# Altium integrated library Cypress Clocks & Buffers Clock Generation.IntLib: 249 symbols (part 4 of 12)
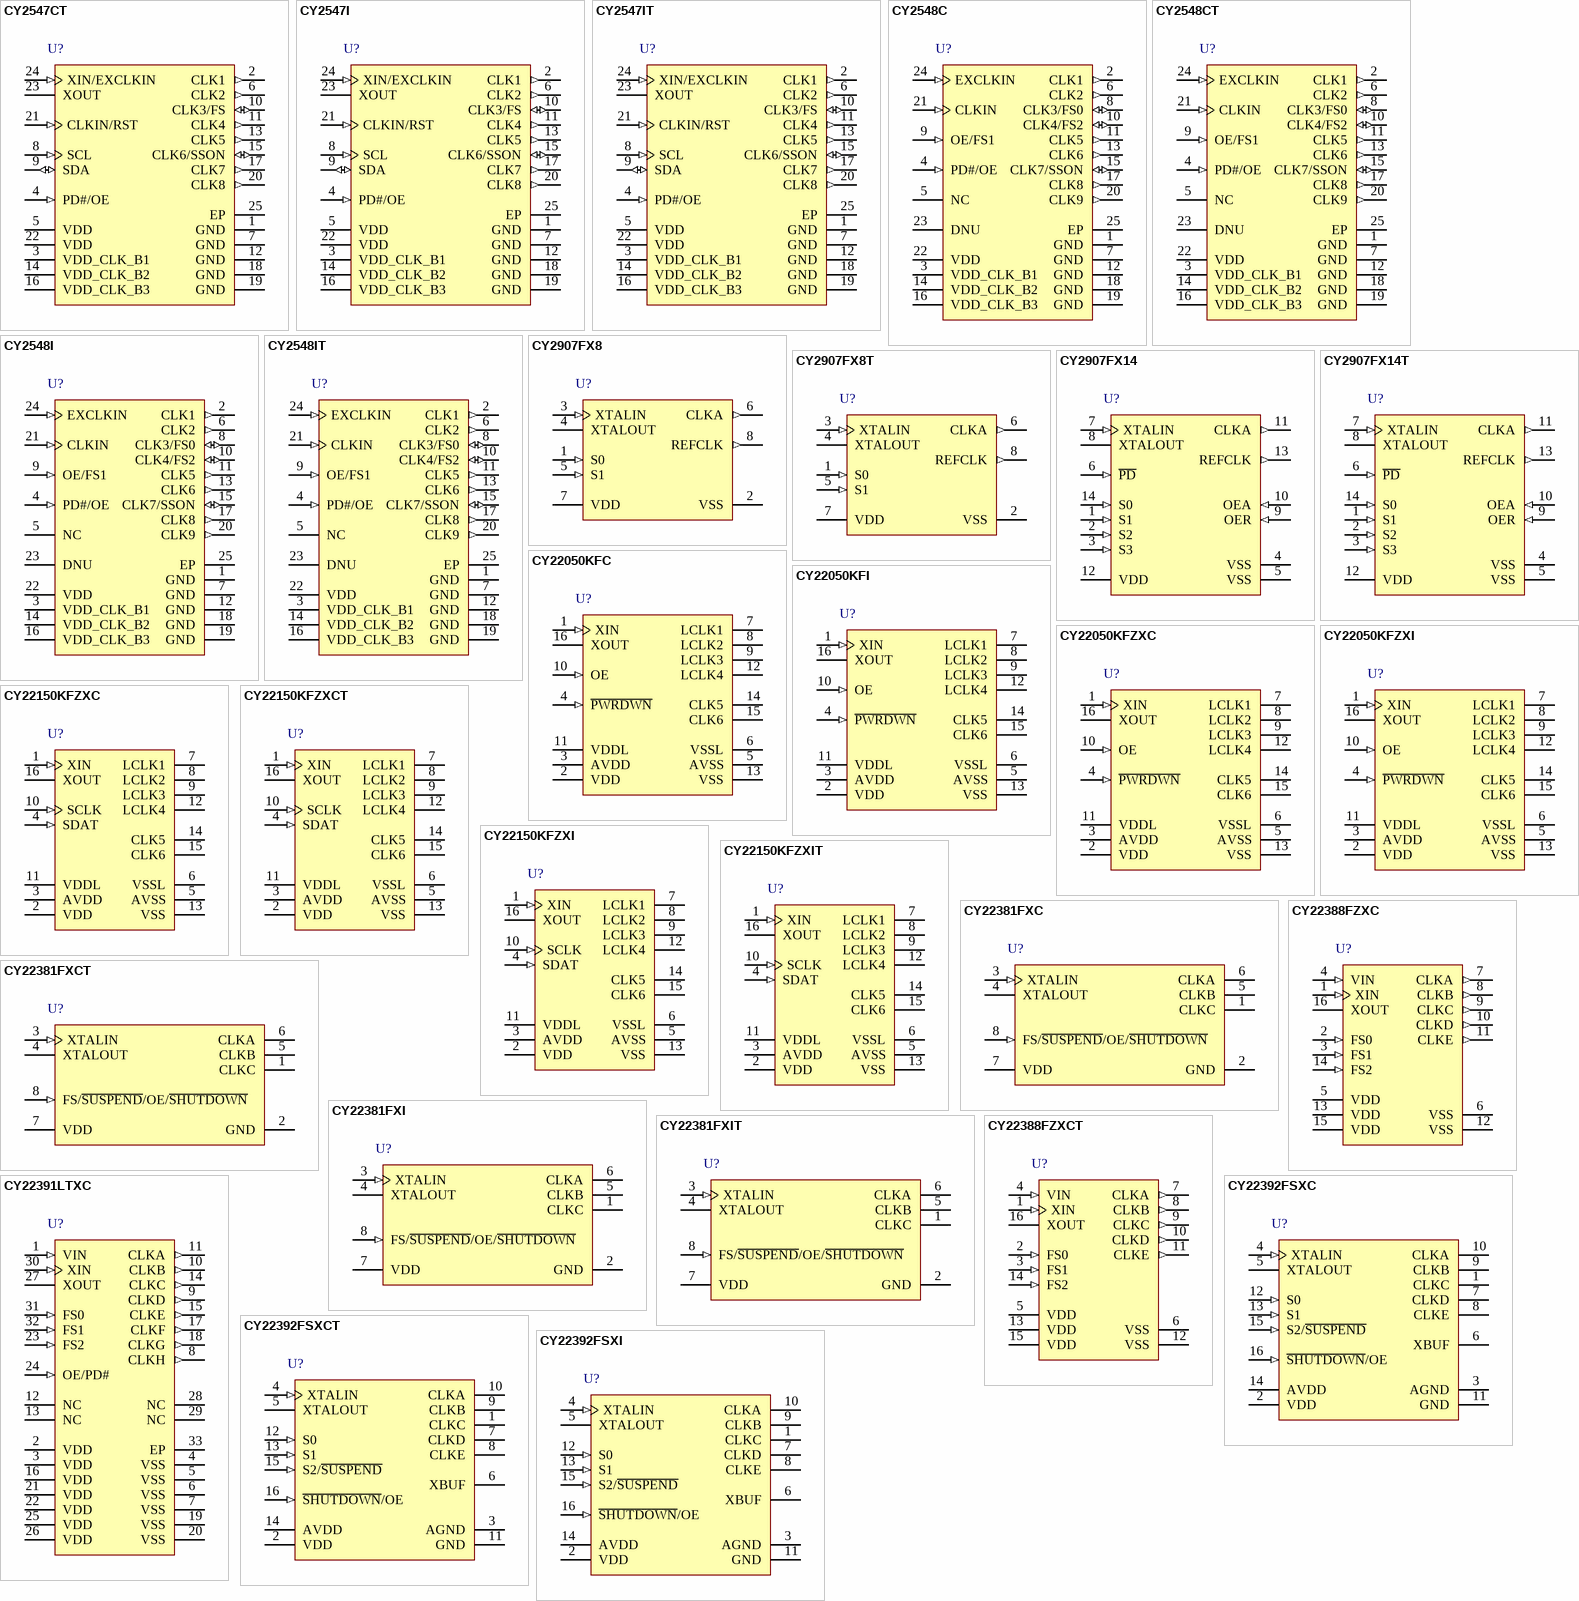
[diagram p11: symbols CY2547CT to CY22392FSXI]

## CY2548CT
designator U?
Quad PLL Programmable Clock Generator with Spread Spectrum, 2.5 / 3.0 / 3.3 V, 9 Outputs, 3 to 166 MHz, 0 to 70 degC, 24-Pin QFN (LY24), Tape and Reel; Manufacturer: Cypress; PartNumber: CY2548CT; Input Frequency Max. (MHz): 166; Input Frequency Min. (MHz): 8; Max. Operating Voltage (V): 3.6; Min. Operating Voltage (V): 2.25; No. of Outputs: 9; Output Frequency Min. (MHz): 3; DatasheetVersion: Rev. *D; PackageVersion: Rev. *D; PackageReference: LY24; PackageDescription: 24-Pin Quad Flat No Lead, Body 4 x 4 mm, Pitch 0.5 mm; Max. Operating Temp. (degreesC): 70; Min. Operating Temp. (degreesC): 0; Output Frequency Max. (MHz): 166; Packing: Tape and Reel; RoHS: Pb-Free; Mounting Technology: Surface Mount; Code_JEDEC: MO-220; ComponentLink1Description: Manufacturer URL; ComponentLink1URL: http://www.cypress.com/; ComponentLink2Description: Datasheet; ComponentLink2URL: http://www.cypress.com/?docID=47416; ComponentLink3Description: Package Specification; ComponentLink3URL: http://www.cypress.com/?docID=47416
footprint CYP-LY24_N (QFN, 24-Leads, Body 4.1x4.1mm, Pitch 0.5mm, Thermal Pad 2.49x2.49mm, IPC Medium Density)
footprint CYP-LY24_L (QFN, 24-Leads, Body 4.1x4.1mm, Pitch 0.5mm, Thermal Pad 2.49x2.49mm, IPC High Density)
footprint CYP-LY24_M (QFN, 24-Leads, Body 4.1x4.1mm, Pitch 0.5mm, Thermal Pad 2.49x2.49mm, IPC Low Density)
pins: 1 GND (power) "Power supply ground", 2 CLK1 (out) "Programmable clock output. Output voltage depends on VDD_CLK_B1 voltage", 3 VDD_CLK_B1 (power) "Power supply for bank1, (CLK1, CLK2, CLK3) Outputs: 2.5 V/3.0 V/3.3 V", 4 PD#/OE (in) "Multifunction programmable pin. Output enable or power-down mode", 5 NC "No Connect", 6 CLK2 (out) "Programmable Clock Output. Output voltage depends on VDD_CLK_B1 voltage", 7 GND (power) "Power supply ground", 8 CLK3/FS0 (io) "Multifunction programmable pin. Programmable clock output clock or frequency select pin. Output voltage of CLK3 depends on VDD_CLK_B1 voltage", 9 OE/FS1 (in) "Multifunction programmable pin. Output enable or frequency select pin", 10 CLK4/FS2 (io) "Multifunction programmable pin. Programmable clock output or frequency select input pin. Output voltage of CLK4 depends on VDD_CLK_B2 voltage", 11 CLK5 (out) "Programmable clock output. Output voltage depends on VDD_CLK_B2 voltage", 12 GND (power) "Power supply ground", 13 CLK6 (out) "Programmable clock output. Output voltage depends on VDD_CLK_B2 voltage", 14 VDD_CLK_B2 (power) "Power supply for bank2, (CLK4, CLK5, CLK6) Outputs. 2.5 V/3.0 V/3.3 V", 15 CLK7/SSON (io) "Multifunction programmable pin. Programmable clock output or spread spectrum ON/OFF control input pin. Output voltage of CLK7 depends on Bank3 voltage", 16 VDD_CLK_B3 (power) "Power supply for bank3, (CLK7, CLK8, CLK9) Outputs. 2.5 V/3.0 V/3.3 V", 17 CLK8 (out) "Programmable output clock. Output voltage depends on Bank3 voltage", 18 GND (power) "Power supply ground", 19 GND (power) "Power supply ground", 20 CLK9 (out) "Programmable clock output. Output voltage depends on VDD_CLK_B3 voltage", 21 CLKIN (in) "2.5 V/3.0 V/3.3 V reference clock input. The signal level of CLKIN input must track VDD power supply on pin 22.", 22 VDD (power) "Power supply. 2.5 V/3.0 V/3.3 V", 23 DNU "Do not use this pin for CY2548", 24 EXCLKIN (in) "2.5 V/3.0 V/3.3 V external clock input for CY2548", 25 EP

## CY2548I
designator U?
Quad PLL Programmable Clock Generator with Spread Spectrum, 2.5 / 3.0 / 3.3 V, 9 Outputs, 3 to 166 MHz, -40 to 85 degC, 24-Pin QFN (LY24), Tube; Manufacturer: Cypress; PartNumber: CY2548I; Input Frequency Max. (MHz): 166; Input Frequency Min. (MHz): 8; Max. Operating Voltage (V): 3.6; Min. Operating Voltage (V): 2.25; No. of Outputs: 9; Output Frequency Min. (MHz): 3; DatasheetVersion: Rev. *D; PackageVersion: Rev. *D; PackageReference: LY24; PackageDescription: 24-Pin Quad Flat No Lead, Body 4 x 4 mm, Pitch 0.5 mm; Max. Operating Temp. (degreesC): 85; Min. Operating Temp. (degreesC): -40; Output Frequency Max. (MHz): 166; Packing: Tube; RoHS: Pb-Free; Mounting Technology: Surface Mount; Code_JEDEC: MO-220; ComponentLink1Description: Manufacturer URL; ComponentLink1URL: http://www.cypress.com/; ComponentLink2Description: Datasheet; ComponentLink2URL: http://www.cypress.com/?docID=47416; ComponentLink3Description: Package Specification; ComponentLink3URL: http://www.cypress.com/?docID=47416
footprint CYP-LY24_N (QFN, 24-Leads, Body 4.1x4.1mm, Pitch 0.5mm, Thermal Pad 2.49x2.49mm, IPC Medium Density)
footprint CYP-LY24_L (QFN, 24-Leads, Body 4.1x4.1mm, Pitch 0.5mm, Thermal Pad 2.49x2.49mm, IPC High Density)
footprint CYP-LY24_M (QFN, 24-Leads, Body 4.1x4.1mm, Pitch 0.5mm, Thermal Pad 2.49x2.49mm, IPC Low Density)
pins: 1 GND (power) "Power supply ground", 2 CLK1 (out) "Programmable clock output. Output voltage depends on VDD_CLK_B1 voltage", 3 VDD_CLK_B1 (power) "Power supply for bank1, (CLK1, CLK2, CLK3) Outputs: 2.5 V/3.0 V/3.3 V", 4 PD#/OE (in) "Multifunction programmable pin. Output enable or power-down mode", 5 NC "No Connect", 6 CLK2 (out) "Programmable Clock Output. Output voltage depends on VDD_CLK_B1 voltage", 7 GND (power) "Power supply ground", 8 CLK3/FS0 (io) "Multifunction programmable pin. Programmable clock output clock or frequency select pin. Output voltage of CLK3 depends on VDD_CLK_B1 voltage", 9 OE/FS1 (in) "Multifunction programmable pin. Output enable or frequency select pin", 10 CLK4/FS2 (io) "Multifunction programmable pin. Programmable clock output or frequency select input pin. Output voltage of CLK4 depends on VDD_CLK_B2 voltage", 11 CLK5 (out) "Programmable clock output. Output voltage depends on VDD_CLK_B2 voltage", 12 GND (power) "Power supply ground", 13 CLK6 (out) "Programmable clock output. Output voltage depends on VDD_CLK_B2 voltage", 14 VDD_CLK_B2 (power) "Power supply for bank2, (CLK4, CLK5, CLK6) Outputs. 2.5 V/3.0 V/3.3 V", 15 CLK7/SSON (io) "Multifunction programmable pin. Programmable clock output or spread spectrum ON/OFF control input pin. Output voltage of CLK7 depends on Bank3 voltage", 16 VDD_CLK_B3 (power) "Power supply for bank3, (CLK7, CLK8, CLK9) Outputs. 2.5 V/3.0 V/3.3 V", 17 CLK8 (out) "Programmable output clock. Output voltage depends on Bank3 voltage", 18 GND (power) "Power supply ground", 19 GND (power) "Power supply ground", 20 CLK9 (out) "Programmable clock output. Output voltage depends on VDD_CLK_B3 voltage", 21 CLKIN (in) "2.5 V/3.0 V/3.3 V reference clock input. The signal level of CLKIN input must track VDD power supply on pin 22.", 22 VDD (power) "Power supply. 2.5 V/3.0 V/3.3 V", 23 DNU "Do not use this pin for CY2548", 24 EXCLKIN (in) "2.5 V/3.0 V/3.3 V external clock input for CY2548", 25 EP

## CY2548IT
designator U?
Quad PLL Programmable Clock Generator with Spread Spectrum, 2.5 / 3.0 / 3.3 V, 9 Outputs, 3 to 166 MHz, -40 to 85 degC, 24-Pin QFN (LY24), Tape and Reel; Manufacturer: Cypress; PartNumber: CY2548IT; Input Frequency Max. (MHz): 166; Input Frequency Min. (MHz): 8; Max. Operating Voltage (V): 3.6; Min. Operating Voltage (V): 2.25; No. of Outputs: 9; Output Frequency Min. (MHz): 3; DatasheetVersion: Rev. *D; PackageVersion: Rev. *D; PackageReference: LY24; PackageDescription: 24-Pin Quad Flat No Lead, Body 4 x 4 mm, Pitch 0.5 mm; Max. Operating Temp. (degreesC): 85; Min. Operating Temp. (degreesC): -40; Output Frequency Max. (MHz): 166; Packing: Tape and Reel; RoHS: Pb-Free; Mounting Technology: Surface Mount; Code_JEDEC: MO-220; ComponentLink1Description: Manufacturer URL; ComponentLink1URL: http://www.cypress.com/; ComponentLink2Description: Datasheet; ComponentLink2URL: http://www.cypress.com/?docID=47416; ComponentLink3Description: Package Specification; ComponentLink3URL: http://www.cypress.com/?docID=47416
footprint CYP-LY24_N (QFN, 24-Leads, Body 4.1x4.1mm, Pitch 0.5mm, Thermal Pad 2.49x2.49mm, IPC Medium Density)
footprint CYP-LY24_L (QFN, 24-Leads, Body 4.1x4.1mm, Pitch 0.5mm, Thermal Pad 2.49x2.49mm, IPC High Density)
footprint CYP-LY24_M (QFN, 24-Leads, Body 4.1x4.1mm, Pitch 0.5mm, Thermal Pad 2.49x2.49mm, IPC Low Density)
pins: 1 GND (power) "Power supply ground", 2 CLK1 (out) "Programmable clock output. Output voltage depends on VDD_CLK_B1 voltage", 3 VDD_CLK_B1 (power) "Power supply for bank1, (CLK1, CLK2, CLK3) Outputs: 2.5 V/3.0 V/3.3 V", 4 PD#/OE (in) "Multifunction programmable pin. Output enable or power-down mode", 5 NC "No Connect", 6 CLK2 (out) "Programmable Clock Output. Output voltage depends on VDD_CLK_B1 voltage", 7 GND (power) "Power supply ground", 8 CLK3/FS0 (io) "Multifunction programmable pin. Programmable clock output clock or frequency select pin. Output voltage of CLK3 depends on VDD_CLK_B1 voltage", 9 OE/FS1 (in) "Multifunction programmable pin. Output enable or frequency select pin", 10 CLK4/FS2 (io) "Multifunction programmable pin. Programmable clock output or frequency select input pin. Output voltage of CLK4 depends on VDD_CLK_B2 voltage", 11 CLK5 (out) "Programmable clock output. Output voltage depends on VDD_CLK_B2 voltage", 12 GND (power) "Power supply ground", 13 CLK6 (out) "Programmable clock output. Output voltage depends on VDD_CLK_B2 voltage", 14 VDD_CLK_B2 (power) "Power supply for bank2, (CLK4, CLK5, CLK6) Outputs. 2.5 V/3.0 V/3.3 V", 15 CLK7/SSON (io) "Multifunction programmable pin. Programmable clock output or spread spectrum ON/OFF control input pin. Output voltage of CLK7 depends on Bank3 voltage", 16 VDD_CLK_B3 (power) "Power supply for bank3, (CLK7, CLK8, CLK9) Outputs. 2.5 V/3.0 V/3.3 V", 17 CLK8 (out) "Programmable output clock. Output voltage depends on Bank3 voltage", 18 GND (power) "Power supply ground", 19 GND (power) "Power supply ground", 20 CLK9 (out) "Programmable clock output. Output voltage depends on VDD_CLK_B3 voltage", 21 CLKIN (in) "2.5 V/3.0 V/3.3 V reference clock input. The signal level of CLKIN input must track VDD power supply on pin 22.", 22 VDD (power) "Power supply. 2.5 V/3.0 V/3.3 V", 23 DNU "Do not use this pin for CY2548", 24 EXCLKIN (in) "2.5 V/3.0 V/3.3 V external clock input for CY2548", 25 EP

## CY2907FX8
designator U?
Single-PLL General Purpose EPROM Programmable Clock Generator, 3.3 / 5.0 V, 2 Outputs, 0.5 to 80 MHz, 0 to 70 degC, 8-Pin SOIC (FX8), Tube; Manufacturer: Cypress; PartNumber: CY2907FX8; Input Frequency Max. (MHz): 30; Input Frequency Min. (MHz): 1; Max. Operating Voltage (V): 5.5; Min. Operating Voltage (V): 3; No. of Outputs: 2; Output Frequency Max. (MHz): 80; Output Frequency Min. (MHz): 0.5; DatasheetVersion: Rev. *G; PackageVersion: Rev. *F; PackageReference: FX8; PackageDescription: 8-Pin Small Outline Integrated Circuit Package, Body 4.889 x 3.8985 mm, Pitch 1.27 mm; Supplier 1: Digi-Key; Supplier Part Number 1: 428-2229-5-ND; Supplier 2: Mouser; Supplier Part Number 2: 727-CY2907FX8; Max. Operating Temp. (degreesC): 70; Min. Operating Temp. (degreesC): 0; Packing: Tube; RoHS: Pb-Free; Mounting Technology: Surface Mount; Code_JEDEC: MS-012; ComponentLink1Description: Manufacturer URL; ComponentLink1URL: http://www.cypress.com/; ComponentLink2Description: Datasheet; ComponentLink2URL: http://www.cypress.com/?docID=44860; ComponentLink3Description: Package Specification; ComponentLink3URL: http://www.cypress.com/?docID=44860
footprint CYP-FX8_N (SOIC, 8-Leads, Body 5x4mm, Pitch 1.27mm, IPC Medium Density)
footprint CYP-FX8_L (SOIC, 8-Leads, Body 5x4mm, Pitch 1.27mm, IPC High Density)
footprint CYP-FX8_M (SOIC, 8-Leads, Body 5x4mm, Pitch 1.27mm, IPC Low Density)
pins: 1 S0 (in) "Frequency select (CLKA) (internal pull-up resistor to VDD)", 2 VSS (power) "Ground", 3 XTALIN (in) "Reference crystal input", 4 XTALOUT "Reference crystal feedback", 5 S1 (in) "Frequency select (CLKA) (internal pull-up resistor to VDD)", 6 CLKA (out) "Clock output", 7 VDD (power) "Voltage supply", 8 REFCLK (out) "Reference clock output (default, can be driven by PLL if desired)"

## CY2907FX8T
designator U?
Single-PLL General Purpose EPROM Programmable Clock Generator, 3.3 / 5.0 V, 2 Outputs, 0.5 to 80 MHz, 0 to 70 degC, 8-Pin SOIC (FX8), Tape and Reel; Manufacturer: Cypress; PartNumber: CY2907FX8T; Input Frequency Max. (MHz): 30; Input Frequency Min. (MHz): 1; Max. Operating Voltage (V): 5.5; Min. Operating Voltage (V): 3; No. of Outputs: 2; Output Frequency Max. (MHz): 80; Output Frequency Min. (MHz): 0.5; DatasheetVersion: Rev. *G; PackageVersion: Rev. *F; PackageReference: FX8; PackageDescription: 8-Pin Small Outline Integrated Circuit Package, Body 4.889 x 3.8985 mm, Pitch 1.27 mm; Supplier 1: Mouser; Supplier Part Number 1: 727-CY2907FX8T; Max. Operating Temp. (degreesC): 70; Min. Operating Temp. (degreesC): 0; Packing: Tape and Reel; RoHS: Pb-Free; Mounting Technology: Surface Mount; Code_JEDEC: MS-012; ComponentLink1Description: Manufacturer URL; ComponentLink1URL: http://www.cypress.com/; ComponentLink2Description: Datasheet; ComponentLink2URL: http://www.cypress.com/?docID=44860; ComponentLink3Description: Package Specification; ComponentLink3URL: http://www.cypress.com/?docID=44860
footprint CYP-FX8_N (SOIC, 8-Leads, Body 5x4mm, Pitch 1.27mm, IPC Medium Density)
footprint CYP-FX8_L (SOIC, 8-Leads, Body 5x4mm, Pitch 1.27mm, IPC High Density)
footprint CYP-FX8_M (SOIC, 8-Leads, Body 5x4mm, Pitch 1.27mm, IPC Low Density)
pins: 1 S0 (in) "Frequency select (CLKA) (internal pull-up resistor to VDD)", 2 VSS (power) "Ground", 3 XTALIN (in) "Reference crystal input", 4 XTALOUT "Reference crystal feedback", 5 S1 (in) "Frequency select (CLKA) (internal pull-up resistor to VDD)", 6 CLKA (out) "Clock output", 7 VDD (power) "Voltage supply", 8 REFCLK (out) "Reference clock output (default, can be driven by PLL if desired)"

## CY2907FX14
designator U?
Single-PLL General Purpose EPROM Programmable Clock Generator, 3.3 / 5.0 V, 2 Outputs, 0.5 to 80 MHz, 0 to 70 degC, 14-Pin SOIC (FX14), Tube; Manufacturer: Cypress; PartNumber: CY2907FX14; Input Frequency Max. (MHz): 30; Input Frequency Min. (MHz): 1; Max. Operating Voltage (V): 5.5; Min. Operating Voltage (V): 3; No. of Outputs: 2; Output Frequency Max. (MHz): 80; Output Frequency Min. (MHz): 0.5; DatasheetVersion: Rev. *G; PackageVersion: Rev. *D; PackageReference: FX14; PackageDescription: 14-Pin Small Outline Integrated Circuit Package, Body 8.6483 x 3.8985 mm, Pitch 1.27 mm; Supplier 1: Digi-Key; Supplier Part Number 1: CY2907FX14-ND; Supplier 2: Mouser; Supplier Part Number 2: 727-CY2907FX14; Max. Operating Temp. (degreesC): 70; Min. Operating Temp. (degreesC): 0; Packing: Tube; RoHS: Pb-Free; Mounting Technology: Surface Mount; Code_JEDEC: MS-012; ComponentLink1Description: Manufacturer URL; ComponentLink1URL: http://www.cypress.com/; ComponentLink2Description: Datasheet; ComponentLink2URL: http://www.cypress.com/?docID=44860; ComponentLink3Description: Package Specification; ComponentLink3URL: http://www.cypress.com/?docID=44860
footprint CYP-FX14_N (SOIC, 14-Leads, Body 8.7x4mm, Pitch 1.27mm, IPC Medium Density)
footprint CYP-FX14_L (SOIC, 14-Leads, Body 8.7x4mm, Pitch 1.27mm, IPC High Density)
footprint CYP-FX14_M (SOIC, 14-Leads, Body 8.7x4mm, Pitch 1.27mm, IPC Low Density)
pins: 1 S1 (in) "Frequency select (CLKA) (internal pull-up resistor to VDD)", 2 S2 (in) "Frequency select (CLKA) (internal pull-up resistor to VDD)", 3 S3 (in) "Frequency select (CLKA) (internal pull-up resistor to VDD)", 4 VSS (power) "Ground", 5 VSS (power) "Ground", 6 ~{PD} (in) "Power-down (active LOW) (internal pull-up resistor to VDD)", 7 XTALIN (in) "Reference crystal input", 8 XTALOUT "Reference crystal feedback", 9 OER (in) "REFCLK output enable (active HIGH) (internal pull-up resistor to VDD)", 10 OEA (in) "CLKA output enable (active HIGH) (internal pull-up resistor to VDD)", 11 CLKA (out) "Clock output", 12 VDD (power) "Voltage supply", 13 REFCLK (out) "Reference clock output (default, can be driven by PLL if desired)", 14 S0 (in) "Frequency select (CLKA) (internal pull-up resistor to VDD)"

## CY2907FX14T
designator U?
Single-PLL General Purpose EPROM Programmable Clock Generator, 3.3 / 5.0 V, 2 Outputs, 0.5 to 80 MHz, 0 to 70 degC, 14-Pin SOIC (FX14), Tape and Reel; Manufacturer: Cypress; PartNumber: CY2907FX14T; Input Frequency Max. (MHz): 30; Input Frequency Min. (MHz): 1; Max. Operating Voltage (V): 5.5; Min. Operating Voltage (V): 3; No. of Outputs: 2; Output Frequency Max. (MHz): 80; Output Frequency Min. (MHz): 0.5; DatasheetVersion: Rev. *G; PackageVersion: Rev. *D; PackageReference: FX14; PackageDescription: 14-Pin Small Outline Integrated Circuit Package, Body 8.6483 x 3.8985 mm, Pitch 1.27 mm; Supplier 1: Digi-Key; Supplier Part Number 1: CY2907FX14T-ND; Supplier 2: Mouser; Supplier Part Number 2: 727-CY2907FX14T; Max. Operating Temp. (degreesC): 70; Min. Operating Temp. (degreesC): 0; Packing: Tape and Reel; RoHS: Pb-Free; Mounting Technology: Surface Mount; Code_JEDEC: MS-012; ComponentLink1Description: Manufacturer URL; ComponentLink1URL: http://www.cypress.com/; ComponentLink2Description: Datasheet; ComponentLink2URL: http://www.cypress.com/?docID=44860; ComponentLink3Description: Package Specification; ComponentLink3URL: http://www.cypress.com/?docID=44860
footprint CYP-FX14_N (SOIC, 14-Leads, Body 8.7x4mm, Pitch 1.27mm, IPC Medium Density)
footprint CYP-FX14_L (SOIC, 14-Leads, Body 8.7x4mm, Pitch 1.27mm, IPC High Density)
footprint CYP-FX14_M (SOIC, 14-Leads, Body 8.7x4mm, Pitch 1.27mm, IPC Low Density)
pins: 1 S1 (in) "Frequency select (CLKA) (internal pull-up resistor to VDD)", 2 S2 (in) "Frequency select (CLKA) (internal pull-up resistor to VDD)", 3 S3 (in) "Frequency select (CLKA) (internal pull-up resistor to VDD)", 4 VSS (power) "Ground", 5 VSS (power) "Ground", 6 ~{PD} (in) "Power-down (active LOW) (internal pull-up resistor to VDD)", 7 XTALIN (in) "Reference crystal input", 8 XTALOUT "Reference crystal feedback", 9 OER (in) "REFCLK output enable (active HIGH) (internal pull-up resistor to VDD)", 10 OEA (in) "CLKA output enable (active HIGH) (internal pull-up resistor to VDD)", 11 CLKA (out) "Clock output", 12 VDD (power) "Voltage supply", 13 REFCLK (out) "Reference clock output (default, can be driven by PLL if desired)", 14 S0 (in) "Frequency select (CLKA) (internal pull-up resistor to VDD)"

## CY22050KFC
designator U?
One-PLL General-Purpose Flash-Programmable Clock Generator, 2.5 / 3.3 V, 6 Outputs, 0.08 to 200 MHz, 0 to 70 degC, 16-Pin TSSOP (Z16), Tube; Manufacturer: Cypress; PartNumber: CY22050KFC; Input Frequency Max. (MHz): 133; Input Frequency Min. (MHz): 1; Max. Operating Voltage (V): 3.465; Min. Operating Voltage (V): 3.135; No. of Outputs: 6; Output Frequency Max. (MHz): 200; Output Frequency Min. (MHz): 0.08; DatasheetVersion: Rev. *K; PackageVersion: Rev. *D; PackageReference: Z16; PackageDescription: 16-Pin Thin Shrink Small Outline Package, Body 5 x 4.4 mm, Pitch 0.65 mm; Supplier 1: Digi-Key; Supplier Part Number 1: CY22050KFC-ND; Supplier 2: Mouser; Supplier Part Number 2: 727-CY22050KFC; Max. Operating Temp. (degreesC): 70; Min. Operating Temp. (degreesC): 0; Packing: Tube; Mounting Technology: Surface Mount; Code_JEDEC: MO-153; ComponentLink1Description: Manufacturer URL; ComponentLink1URL: http://www.cypress.com/; ComponentLink2Description: Datasheet; ComponentLink2URL: http://www.cypress.com/?docID=31116; ComponentLink3Description: Package Specification; ComponentLink3URL: http://www.cypress.com/?docID=46959
footprint CYP-Z16_N (SOP, 16-Leads, Body 5.1x4.5mm, Pitch 0.65mm, IPC Medium Density)
footprint CYP-Z16_L (SOP, 16-Leads, Body 5.1x4.5mm, Pitch 0.65mm, IPC High Density)
footprint CYP-Z16_M (SOP, 16-Leads, Body 5.1x4.5mm, Pitch 0.65mm, IPC Low Density)
pins: 1 XIN (in) "Reference Input. Driven by a crystal (8 MHz-30 MHz) or external clock (1 MHz-133 MHz). Programmable input load capacitors allow for maximum flexibility in selecting a crystal, based on manufacturer, process, performance, or (See Datasheet)", 2 VDD (power) "3.3 V voltage supply", 3 AVDD (power) "3.3 V analog voltage supply", 4 ~{PWRDWN} (in) "Power Down. When pin 4 is driven LOW, the CY22050 goes into shut down mode.", 5 AVSS (power) "Analog ground", 6 VSSL (power) "LCLK ground", 7 LCLK1 (hiz) "Configurable clock output 1 at VDDL level (3.3 V or 2.5 V)", 8 LCLK2 (hiz) "Configurable clock output 2 at VDDL level (3.3 V or 2.5 V)", 9 LCLK3 (hiz) "Configurable clock output 3 at VDDL level (3.3 V or 2.5 V)", 10 OE (in) "Output Enable. When pin 10 is driven LOW, all outputs are three-stated.", 11 VDDL (power) "LCLK voltage supply (2.5 V or 3.3 V)", 12 LCLK4 (hiz) "Configurable clock output 4 at VDDL level (3.3 V or 2.5 V)", 13 VSS (power) "Ground", 14 CLK5 (hiz) "Configurable clock output 5 (3.3 V)", 15 CLK6 (hiz) "Configurable clock output 6 (3.3 V)", 16 XOUT "Reference output"

## CY22050KFI
designator U?
One-PLL General-Purpose Flash-Programmable Clock Generator, 2.5 / 3.3 V, 6 Outputs, 0.08 to 166.6 MHz, -40 to 85 degC, 16-Pin TSSOP (Z16), Tube; Manufacturer: Cypress; PartNumber: CY22050KFI; Input Frequency Max. (MHz): 133; Input Frequency Min. (MHz): 1; Max. Operating Voltage (V): 3.465; Min. Operating Voltage (V): 3.135; No. of Outputs: 6; Output Frequency Max. (MHz): 166.6; Output Frequency Min. (MHz): 0.08; DatasheetVersion: Rev. *K; PackageVersion: Rev. *D; PackageReference: Z16; PackageDescription: 16-Pin Thin Shrink Small Outline Package, Body 5 x 4.4 mm, Pitch 0.65 mm; Supplier 1: Digi-Key; Supplier Part Number 1: CY22050KFI-ND; Supplier 2: Mouser; Supplier Part Number 2: 727-CY22050KFI; Max. Operating Temp. (degreesC): 85; Min. Operating Temp. (degreesC): -40; Packing: Tube; Mounting Technology: Surface Mount; Code_JEDEC: MO-153; ComponentLink1Description: Manufacturer URL; ComponentLink1URL: http://www.cypress.com/; ComponentLink2Description: Datasheet; ComponentLink2URL: http://www.cypress.com/?docID=31116; ComponentLink3Description: Package Specification; ComponentLink3URL: http://www.cypress.com/?docID=46959
footprint CYP-Z16_N (SOP, 16-Leads, Body 5.1x4.5mm, Pitch 0.65mm, IPC Medium Density)
footprint CYP-Z16_L (SOP, 16-Leads, Body 5.1x4.5mm, Pitch 0.65mm, IPC High Density)
footprint CYP-Z16_M (SOP, 16-Leads, Body 5.1x4.5mm, Pitch 0.65mm, IPC Low Density)
pins: 1 XIN (in) "Reference Input. Driven by a crystal (8 MHz-30 MHz) or external clock (1 MHz-133 MHz). Programmable input load capacitors allow for maximum flexibility in selecting a crystal, based on manufacturer, process, performance, or (See Datasheet)", 2 VDD (power) "3.3 V voltage supply", 3 AVDD (power) "3.3 V analog voltage supply", 4 ~{PWRDWN} (in) "Power Down. When pin 4 is driven LOW, the CY22050 goes into shut down mode.", 5 AVSS (power) "Analog ground", 6 VSSL (power) "LCLK ground", 7 LCLK1 (hiz) "Configurable clock output 1 at VDDL level (3.3 V or 2.5 V)", 8 LCLK2 (hiz) "Configurable clock output 2 at VDDL level (3.3 V or 2.5 V)", 9 LCLK3 (hiz) "Configurable clock output 3 at VDDL level (3.3 V or 2.5 V)", 10 OE (in) "Output Enable. When pin 10 is driven LOW, all outputs are three-stated.", 11 VDDL (power) "LCLK voltage supply (2.5 V or 3.3 V)", 12 LCLK4 (hiz) "Configurable clock output 4 at VDDL level (3.3 V or 2.5 V)", 13 VSS (power) "Ground", 14 CLK5 (hiz) "Configurable clock output 5 (3.3 V)", 15 CLK6 (hiz) "Configurable clock output 6 (3.3 V)", 16 XOUT "Reference output"

## CY22050KFZXC
designator U?
One-PLL General-Purpose Flash-Programmable Clock Generator, 2.5 / 3.3 V, 6 Outputs, 0.08 to 200 MHz, 0 to 70 degC, 16-Pin TSSOP (ZX16), Tube; Manufacturer: Cypress; PartNumber: CY22050KFZXC; Input Frequency Max. (MHz): 133; Input Frequency Min. (MHz): 1; Max. Operating Voltage (V): 3.465; Min. Operating Voltage (V): 3.135; No. of Outputs: 6; Output Frequency Max. (MHz): 200; Output Frequency Min. (MHz): 0.08; DatasheetVersion: Rev. *K; PackageVersion: Rev. *D, 09/2011; PackageReference: ZX16; PackageDescription: 16-Pin Thin Shrink Small Outline Package, Body 5 x 4.4 mm, Pitch 0.65 mm; Supplier 1: Digi-Key; Supplier Part Number 1: CY22050KFZXC-ND; Supplier 2: Newark; Supplier Part Number 2: 46P7546; Supplier 3: Mouser; Supplier Part Number 3: 727-CY22050KFZXC; Max. Operating Temp. (degreesC): 70; Min. Operating Temp. (degreesC): 0; Packing: Tube; RoHS: Pb-Free; Mounting Technology: Surface Mount; Code_JEDEC: MO-153; ComponentLink1Description: Manufacturer URL; ComponentLink1URL: http://www.cypress.com/; ComponentLink2Description: Datasheet; ComponentLink2URL: http://www.cypress.com/?docID=31116; ComponentLink3Description: Package Specification; ComponentLink3URL: http://www.cypress.com/?docID=39143
footprint CYP-ZX16_N (SOP, 16-Leads, Body 5.1x4.5mm, Pitch 0.65mm, IPC Medium Density)
footprint CYP-ZX16_L (SOP, 16-Leads, Body 5.1x4.5mm, Pitch 0.65mm, IPC High Density)
footprint CYP-ZX16_M (SOP, 16-Leads, Body 5.1x4.5mm, Pitch 0.65mm, IPC Low Density)
pins: 1 XIN (in) "Reference Input. Driven by a crystal (8 MHz-30 MHz) or external clock (1 MHz-133 MHz). Programmable input load capacitors allow for maximum flexibility in selecting a crystal, based on manufacturer, process, performance, or (See Datasheet)", 2 VDD (power) "3.3 V voltage supply", 3 AVDD (power) "3.3 V analog voltage supply", 4 ~{PWRDWN} (in) "Power Down. When pin 4 is driven LOW, the CY22050 goes into shut down mode.", 5 AVSS (power) "Analog ground", 6 VSSL (power) "LCLK ground", 7 LCLK1 (hiz) "Configurable clock output 1 at VDDL level (3.3 V or 2.5 V)", 8 LCLK2 (hiz) "Configurable clock output 2 at VDDL level (3.3 V or 2.5 V)", 9 LCLK3 (hiz) "Configurable clock output 3 at VDDL level (3.3 V or 2.5 V)", 10 OE (in) "Output Enable. When pin 10 is driven LOW, all outputs are three-stated.", 11 VDDL (power) "LCLK voltage supply (2.5 V or 3.3 V)", 12 LCLK4 (hiz) "Configurable clock output 4 at VDDL level (3.3 V or 2.5 V)", 13 VSS (power) "Ground", 14 CLK5 (hiz) "Configurable clock output 5 (3.3 V)", 15 CLK6 (hiz) "Configurable clock output 6 (3.3 V)", 16 XOUT "Reference output"

## CY22050KFZXI
designator U?
One-PLL General-Purpose Flash-Programmable Clock Generator, 2.5 / 3.3 V, 6 Outputs, 0.08 to 166.6 MHz, -40 to 85 degC, 16-Pin TSSOP (ZX16), Tube; Manufacturer: Cypress; PartNumber: CY22050KFZXI; Input Frequency Max. (MHz): 133; Input Frequency Min. (MHz): 1; Max. Operating Voltage (V): 3.465; Min. Operating Voltage (V): 3.135; No. of Outputs: 6; Output Frequency Max. (MHz): 166.6; Output Frequency Min. (MHz): 0.08; DatasheetVersion: Rev. *K; PackageVersion: Rev. *D, 09/2011; PackageReference: ZX16; PackageDescription: 16-Pin Thin Shrink Small Outline Package, Body 5 x 4.4 mm, Pitch 0.65 mm; Supplier 1: Digi-Key; Supplier Part Number 1: CY22050KFZXI-ND; Supplier 2: Mouser; Supplier Part Number 2: 727-CY22050KFZXI; Max. Operating Temp. (degreesC): 85; Min. Operating Temp. (degreesC): -40; Packing: Tube; RoHS: Pb-Free; Mounting Technology: Surface Mount; Code_JEDEC: MO-153; ComponentLink1Description: Manufacturer URL; ComponentLink1URL: http://www.cypress.com/; ComponentLink2Description: Datasheet; ComponentLink2URL: http://www.cypress.com/?docID=31116; ComponentLink3Description: Package Specification; ComponentLink3URL: http://www.cypress.com/?docID=39143
footprint CYP-ZX16_N (SOP, 16-Leads, Body 5.1x4.5mm, Pitch 0.65mm, IPC Medium Density)
footprint CYP-ZX16_L (SOP, 16-Leads, Body 5.1x4.5mm, Pitch 0.65mm, IPC High Density)
footprint CYP-ZX16_M (SOP, 16-Leads, Body 5.1x4.5mm, Pitch 0.65mm, IPC Low Density)
pins: 1 XIN (in) "Reference Input. Driven by a crystal (8 MHz-30 MHz) or external clock (1 MHz-133 MHz). Programmable input load capacitors allow for maximum flexibility in selecting a crystal, based on manufacturer, process, performance, or (See Datasheet)", 2 VDD (power) "3.3 V voltage supply", 3 AVDD (power) "3.3 V analog voltage supply", 4 ~{PWRDWN} (in) "Power Down. When pin 4 is driven LOW, the CY22050 goes into shut down mode.", 5 AVSS (power) "Analog ground", 6 VSSL (power) "LCLK ground", 7 LCLK1 (hiz) "Configurable clock output 1 at VDDL level (3.3 V or 2.5 V)", 8 LCLK2 (hiz) "Configurable clock output 2 at VDDL level (3.3 V or 2.5 V)", 9 LCLK3 (hiz) "Configurable clock output 3 at VDDL level (3.3 V or 2.5 V)", 10 OE (in) "Output Enable. When pin 10 is driven LOW, all outputs are three-stated.", 11 VDDL (power) "LCLK voltage supply (2.5 V or 3.3 V)", 12 LCLK4 (hiz) "Configurable clock output 4 at VDDL level (3.3 V or 2.5 V)", 13 VSS (power) "Ground", 14 CLK5 (hiz) "Configurable clock output 5 (3.3 V)", 15 CLK6 (hiz) "Configurable clock output 6 (3.3 V)", 16 XOUT "Reference output"

## CY22150KFZXC
designator U?
One-PLL General-Purpose Flash-Programmable and I2C Programmable Clock Generator, 2.5 / 3.3 V, 6 Outputs, 0.08 to 200 MHz, 0 to 70 degC, 16-Pin TSSOP (Z16), Tube; Manufacturer: Cypress; PartNumber: CY22150KFZXC; Input Frequency Max. (MHz): 133; Input Frequency Min. (MHz): 1; Max. Operating Voltage (V): 3.465; Min. Operating Voltage (V): 3.135; No. of Outputs: 6; Output Frequency Max. (MHz): 200; Output Frequency Min. (MHz): 0.08; DatasheetVersion: Rev. *M; PackageVersion: Rev. *D; PackageReference: Z16; PackageDescription: 16-Pin Thin Shrink Small Outline Package, Body 5 x 4.4 mm, Pitch 0.65 mm; Supplier 1: Digi-Key; Supplier Part Number 1: CY22150KFZXC-ND; Supplier 2: Newark; Supplier Part Number 2: 46P7551; Supplier 3: Mouser; Supplier Part Number 3: 727-CY22150KFZXC; Max. Operating Temp. (degreesC): 70; Min. Operating Temp. (degreesC): 0; Packing: Tube; RoHS: Pb-Free; Mounting Technology: Surface Mount; Code_JEDEC: MO-153; ComponentLink1Description: Manufacturer URL; ComponentLink1URL: http://www.cypress.com/; ComponentLink2Description: Datasheet; ComponentLink2URL: http://www.cypress.com/?docID=42340; ComponentLink3Description: Package Specification; ComponentLink3URL: http://www.cypress.com/?docID=46959
footprint CYP-Z16_N (SOP, 16-Leads, Body 5.1x4.5mm, Pitch 0.65mm, IPC Medium Density)
footprint CYP-Z16_L (SOP, 16-Leads, Body 5.1x4.5mm, Pitch 0.65mm, IPC High Density)
footprint CYP-Z16_M (SOP, 16-Leads, Body 5.1x4.5mm, Pitch 0.65mm, IPC Low Density)
pins: 1 XIN (in) "Reference Input. Driven by a crystal (8 MHz to 30 MHz) or external clock (1 MHz to 133 MHz). Programmable input load capacitors allow for maximum flexibility in selecting a crystal, regardless of manufacturer, process, (See Datasheet)", 2 VDD (power) "3.3 V voltage supply", 3 AVDD (power) "3.3 V analog voltage supply", 4 SDAT (in) "I2C Serial Data Input", 5 AVSS (power) "Analog ground", 6 VSSL (power) "LCLK ground", 7 LCLK1 (hiz) "Configurable clock output 1 at VDDL level (3.3 V or 2.5 V)", 8 LCLK2 (hiz) "Configurable clock output 2 at VDDL level (3.3 V or 2.5 V)", 9 LCLK3 (hiz) "Configurable clock output 3 at VDDL level (3.3 V or 2.5 V)", 10 SCLK (in) "I2C Serial Clock Iutput", 11 VDDL (power) "LCLK voltage supply (2.5 V or 3.3 V)", 12 LCLK4 (hiz) "Configurable clock output 4 at VDDL level (3.3 V or 2.5 V)", 13 VSS (power) "Ground", 14 CLK5 (hiz) "Configurable clock output 5 (3.3 V)", 15 CLK6 (hiz) "Configurable clock output 6 (3.3 V)", 16 XOUT "Reference output"

## CY22150KFZXCT
designator U?
One-PLL General-Purpose Flash-Programmable and I2C Programmable Clock Generator, 2.5 / 3.3 V, 6 Outputs, 0.08 to 200 MHz, 0 to 70 degC, 16-Pin TSSOP (Z16), Tape and Reel; Manufacturer: Cypress; PartNumber: CY22150KFZXCT; Input Frequency Max. (MHz): 133; Input Frequency Min. (MHz): 1; Max. Operating Voltage (V): 3.465; Min. Operating Voltage (V): 3.135; No. of Outputs: 6; Output Frequency Max. (MHz): 200; Output Frequency Min. (MHz): 0.08; DatasheetVersion: Rev. *M; PackageVersion: Rev. *D; PackageReference: Z16; PackageDescription: 16-Pin Thin Shrink Small Outline Package, Body 5 x 4.4 mm, Pitch 0.65 mm; Supplier 1: Digi-Key; Supplier Part Number 1: CY22150KFZXCT-ND; Supplier 2: Mouser; Supplier Part Number 2: 727-CY22150KFZXCT; Max. Operating Temp. (degreesC): 70; Min. Operating Temp. (degreesC): 0; Packing: Tape and Reel; RoHS: Pb-Free; Mounting Technology: Surface Mount; Code_JEDEC: MO-153; ComponentLink1Description: Manufacturer URL; ComponentLink1URL: http://www.cypress.com/; ComponentLink2Description: Datasheet; ComponentLink2URL: http://www.cypress.com/?docID=42340; ComponentLink3Description: Package Specification; ComponentLink3URL: http://www.cypress.com/?docID=46959
footprint CYP-Z16_N (SOP, 16-Leads, Body 5.1x4.5mm, Pitch 0.65mm, IPC Medium Density)
footprint CYP-Z16_L (SOP, 16-Leads, Body 5.1x4.5mm, Pitch 0.65mm, IPC High Density)
footprint CYP-Z16_M (SOP, 16-Leads, Body 5.1x4.5mm, Pitch 0.65mm, IPC Low Density)
pins: 1 XIN (in) "Reference Input. Driven by a crystal (8 MHz to 30 MHz) or external clock (1 MHz to 133 MHz). Programmable input load capacitors allow for maximum flexibility in selecting a crystal, regardless of manufacturer, process, (See Datasheet)", 2 VDD (power) "3.3 V voltage supply", 3 AVDD (power) "3.3 V analog voltage supply", 4 SDAT (in) "I2C Serial Data Input", 5 AVSS (power) "Analog ground", 6 VSSL (power) "LCLK ground", 7 LCLK1 (hiz) "Configurable clock output 1 at VDDL level (3.3 V or 2.5 V)", 8 LCLK2 (hiz) "Configurable clock output 2 at VDDL level (3.3 V or 2.5 V)", 9 LCLK3 (hiz) "Configurable clock output 3 at VDDL level (3.3 V or 2.5 V)", 10 SCLK (in) "I2C Serial Clock Iutput", 11 VDDL (power) "LCLK voltage supply (2.5 V or 3.3 V)", 12 LCLK4 (hiz) "Configurable clock output 4 at VDDL level (3.3 V or 2.5 V)", 13 VSS (power) "Ground", 14 CLK5 (hiz) "Configurable clock output 5 (3.3 V)", 15 CLK6 (hiz) "Configurable clock output 6 (3.3 V)", 16 XOUT "Reference output"

## CY22150KFZXI
designator U?
One-PLL General-Purpose Flash-Programmable and I2C Programmable Clock Generator, 2.5 / 3.3 V, 6 Outputs, 0.08 to 166.6 MHz, -40 to 85 degC, 16-Pin TSSOP (Z16), Tube; Manufacturer: Cypress; PartNumber: CY22150KFZXI; Input Frequency Max. (MHz): 133; Input Frequency Min. (MHz): 1; Max. Operating Voltage (V): 3.465; Min. Operating Voltage (V): 3.135; No. of Outputs: 6; Output Frequency Max. (MHz): 166.6; Output Frequency Min. (MHz): 0.08; DatasheetVersion: Rev. *M; PackageVersion: Rev. *D; PackageReference: Z16; PackageDescription: 16-Pin Thin Shrink Small Outline Package, Body 5 x 4.4 mm, Pitch 0.65 mm; Supplier 1: Digi-Key; Supplier Part Number 1: CY22150KFZXI-ND; Supplier 2: Mouser; Supplier Part Number 2: 727-CY22150KFZXI; Max. Operating Temp. (degreesC): 85; Min. Operating Temp. (degreesC): -40; Packing: Tube; RoHS: Pb-Free; Mounting Technology: Surface Mount; Code_JEDEC: MO-153; ComponentLink1Description: Manufacturer URL; ComponentLink1URL: http://www.cypress.com/; ComponentLink2Description: Datasheet; ComponentLink2URL: http://www.cypress.com/?docID=42340; ComponentLink3Description: Package Specification; ComponentLink3URL: http://www.cypress.com/?docID=46959
footprint CYP-Z16_N (SOP, 16-Leads, Body 5.1x4.5mm, Pitch 0.65mm, IPC Medium Density)
footprint CYP-Z16_L (SOP, 16-Leads, Body 5.1x4.5mm, Pitch 0.65mm, IPC High Density)
footprint CYP-Z16_M (SOP, 16-Leads, Body 5.1x4.5mm, Pitch 0.65mm, IPC Low Density)
pins: 1 XIN (in) "Reference Input. Driven by a crystal (8 MHz to 30 MHz) or external clock (1 MHz to 133 MHz). Programmable input load capacitors allow for maximum flexibility in selecting a crystal, regardless of manufacturer, process, (See Datasheet)", 2 VDD (power) "3.3 V voltage supply", 3 AVDD (power) "3.3 V analog voltage supply", 4 SDAT (in) "I2C Serial Data Input", 5 AVSS (power) "Analog ground", 6 VSSL (power) "LCLK ground", 7 LCLK1 (hiz) "Configurable clock output 1 at VDDL level (3.3 V or 2.5 V)", 8 LCLK2 (hiz) "Configurable clock output 2 at VDDL level (3.3 V or 2.5 V)", 9 LCLK3 (hiz) "Configurable clock output 3 at VDDL level (3.3 V or 2.5 V)", 10 SCLK (in) "I2C Serial Clock Iutput", 11 VDDL (power) "LCLK voltage supply (2.5 V or 3.3 V)", 12 LCLK4 (hiz) "Configurable clock output 4 at VDDL level (3.3 V or 2.5 V)", 13 VSS (power) "Ground", 14 CLK5 (hiz) "Configurable clock output 5 (3.3 V)", 15 CLK6 (hiz) "Configurable clock output 6 (3.3 V)", 16 XOUT "Reference output"

## CY22150KFZXIT
designator U?
One-PLL General-Purpose Flash-Programmable and I2C Programmable Clock Generator, 2.5 / 3.3 V, 6 Outputs, 0.08 to 166.6 MHz, -40 to 85 degC, 16-Pin TSSOP (Z16), Tape and Reel; Manufacturer: Cypress; PartNumber: CY22150KFZXIT; Input Frequency Max. (MHz): 133; Input Frequency Min. (MHz): 1; Max. Operating Voltage (V): 3.465; Min. Operating Voltage (V): 3.135; No. of Outputs: 6; Output Frequency Max. (MHz): 166.6; Output Frequency Min. (MHz): 0.08; DatasheetVersion: Rev. *M; PackageVersion: Rev. *D; PackageReference: Z16; PackageDescription: 16-Pin Thin Shrink Small Outline Package, Body 5 x 4.4 mm, Pitch 0.65 mm; Supplier 1: Digi-Key; Supplier Part Number 1: CY22150KFZXIT-ND; Supplier 2: Mouser; Supplier Part Number 2: 727-CY22150KFZXIT; Max. Operating Temp. (degreesC): 85; Min. Operating Temp. (degreesC): -40; Packing: Tape and Reel; RoHS: Pb-Free; Mounting Technology: Surface Mount; Code_JEDEC: MO-153; ComponentLink1Description: Manufacturer URL; ComponentLink1URL: http://www.cypress.com/; ComponentLink2Description: Datasheet; ComponentLink2URL: http://www.cypress.com/?docID=42340; ComponentLink3Description: Package Specification; ComponentLink3URL: http://www.cypress.com/?docID=46959
footprint CYP-Z16_N (SOP, 16-Leads, Body 5.1x4.5mm, Pitch 0.65mm, IPC Medium Density)
footprint CYP-Z16_L (SOP, 16-Leads, Body 5.1x4.5mm, Pitch 0.65mm, IPC High Density)
footprint CYP-Z16_M (SOP, 16-Leads, Body 5.1x4.5mm, Pitch 0.65mm, IPC Low Density)
pins: 1 XIN (in) "Reference Input. Driven by a crystal (8 MHz to 30 MHz) or external clock (1 MHz to 133 MHz). Programmable input load capacitors allow for maximum flexibility in selecting a crystal, regardless of manufacturer, process, (See Datasheet)", 2 VDD (power) "3.3 V voltage supply", 3 AVDD (power) "3.3 V analog voltage supply", 4 SDAT (in) "I2C Serial Data Input", 5 AVSS (power) "Analog ground", 6 VSSL (power) "LCLK ground", 7 LCLK1 (hiz) "Configurable clock output 1 at VDDL level (3.3 V or 2.5 V)", 8 LCLK2 (hiz) "Configurable clock output 2 at VDDL level (3.3 V or 2.5 V)", 9 LCLK3 (hiz) "Configurable clock output 3 at VDDL level (3.3 V or 2.5 V)", 10 SCLK (in) "I2C Serial Clock Iutput", 11 VDDL (power) "LCLK voltage supply (2.5 V or 3.3 V)", 12 LCLK4 (hiz) "Configurable clock output 4 at VDDL level (3.3 V or 2.5 V)", 13 VSS (power) "Ground", 14 CLK5 (hiz) "Configurable clock output 5 (3.3 V)", 15 CLK6 (hiz) "Configurable clock output 6 (3.3 V)", 16 XOUT "Reference output"

## CY22381FXC
designator U?
Three-PLL General Purpose FLASH Programmable Clock Generator, 3.3 V, 3 Outputs, 200 MHz Maximum, 0 to 70 degC, 8-Pin SOIC (SX8), Tube; Manufacturer: Cypress; PartNumber: CY22381FXC; Input Frequency Max. (MHz): 166; Input Frequency Min. (MHz): 1; Max. Operating Voltage (V): 3.465; Min. Operating Voltage (V): 3.135; No. of Outputs: 3; Output Frequency Max. (MHz): 200; DatasheetVersion: Rev. *I; PackageVersion: Rev. *E, 06/2011; PackageReference: SX8; PackageDescription: 8-pin Lead SOIC-S08, Body 4.89 x 3.90 mm,Pitch 1.27 mm; Supplier 1: Digi-Key; Supplier Part Number 1: 428-1742-ND; Supplier 2: Farnell; Supplier Part Number 2: 1837329; Supplier 3: Newark; Supplier Part Number 3: 19M5871; Supplier 4: Mouser; Supplier Part Number 4: 727-CY22381FXC; Max. Operating Temp. (degreesC): 70; Min. Operating Temp. (degreesC): 0; Packing: Tube; RoHS: Pb-Free; Mounting Technology: Surface Mount; Code_JEDEC: MS-012; ComponentLink1Description: Manufacturer URL; ComponentLink1URL: http://www.cypress.com/; ComponentLink2Description: Datasheet; ComponentLink2URL: http://www.cypress.com/?docID=29347; ComponentLink3Description: Package Specification; ComponentLink3URL: http://www.cypress.com/?docID=39153
footprint CYP-SX8_N (SOIC, 8-Leads, Body 4.89x3.90mm, Pitch 1.27mm, IPC Medium Density)
footprint CYP-SX8_L (SOIC, 8-Leads, Body 4.89x3.90mm, Pitch 1.27mm, IPC High Density)
footprint CYP-SX8_M (SOIC, 8-Leads, Body 4.89x3.90mm, Pitch 1.27mm, IPC Low Density)
pins: 1 CLKC (hiz) "Configurable clock output C", 2 GND (power) "Ground", 3 XTALIN (in) "Reference crystal input or external reference clock input", 4 XTALOUT "Reference crystal feedback (float if XTALIN is driven by external reference clock)", 5 CLKB (hiz) "Configurable clock output B", 6 CLKA (hiz) "Configurable clock output A", 7 VDD (power) "Power supply", 8 FS/~{SUSPEND}/OE/~{SHUTDOWN} (in) "General Purpose Input. Can be Frequency Control, Suspend mode control, Output Enable, or full-chip shutdown."

## CY22381FXCT
designator U?
Three-PLL General Purpose FLASH Programmable Clock Generator, 3.3 V, 3 Outputs, 200 MHz Maximum, 0 to 70 degC, 8-Pin SOIC (SX8), Tape and Reel; Manufacturer: Cypress; PartNumber: CY22381FXCT; Input Frequency Max. (MHz): 166; Input Frequency Min. (MHz): 1; Max. Operating Voltage (V): 3.465; Min. Operating Voltage (V): 3.135; No. of Outputs: 3; Output Frequency Max. (MHz): 200; DatasheetVersion: Rev. *I; PackageVersion: Rev. *E, 06/2011; PackageReference: SX8; PackageDescription: 8-pin Lead SOIC-S08, Body 4.89 x 3.90 mm,Pitch 1.27 mm; Supplier 1: Digi-Key; Supplier Part Number 1: CY22381FXCT-ND; Supplier 2: Mouser; Supplier Part Number 2: 727-CY22381FXCT; Max. Operating Temp. (degreesC): 70; Min. Operating Temp. (degreesC): 0; Packing: Tape and Reel; RoHS: Pb-Free; Mounting Technology: Surface Mount; Code_JEDEC: MS-012; ComponentLink1Description: Manufacturer URL; ComponentLink1URL: http://www.cypress.com/; ComponentLink2Description: Datasheet; ComponentLink2URL: http://www.cypress.com/?docID=29347; ComponentLink3Description: Package Specification; ComponentLink3URL: http://www.cypress.com/?docID=39153
footprint CYP-SX8_N (SOIC, 8-Leads, Body 4.89x3.90mm, Pitch 1.27mm, IPC Medium Density)
footprint CYP-SX8_L (SOIC, 8-Leads, Body 4.89x3.90mm, Pitch 1.27mm, IPC High Density)
footprint CYP-SX8_M (SOIC, 8-Leads, Body 4.89x3.90mm, Pitch 1.27mm, IPC Low Density)
pins: 1 CLKC (hiz) "Configurable clock output C", 2 GND (power) "Ground", 3 XTALIN (in) "Reference crystal input or external reference clock input", 4 XTALOUT "Reference crystal feedback (float if XTALIN is driven by external reference clock)", 5 CLKB (hiz) "Configurable clock output B", 6 CLKA (hiz) "Configurable clock output A", 7 VDD (power) "Power supply", 8 FS/~{SUSPEND}/OE/~{SHUTDOWN} (in) "General Purpose Input. Can be Frequency Control, Suspend mode control, Output Enable, or full-chip shutdown."

## CY22381FXI
designator U?
Three-PLL General Purpose FLASH Programmable Clock Generator, 3.3 V, 3 Outputs, 166 MHz Maximum, -40 to 85 degC, 8-Pin SOIC (SX8), Tube; Manufacturer: Cypress; PartNumber: CY22381FXI; Input Frequency Max. (MHz): 150; Input Frequency Min. (MHz): 1; Max. Operating Voltage (V): 3.465; Min. Operating Voltage (V): 3.135; No. of Outputs: 3; Output Frequency Max. (MHz): 166; DatasheetVersion: Rev. *I; PackageVersion: Rev. *E, 06/2011; PackageReference: SX8; PackageDescription: 8-pin Lead SOIC-S08, Body 4.89 x 3.90 mm,Pitch 1.27 mm; Supplier 1: Digi-Key; Supplier Part Number 1: 428-2178-5-ND; Supplier 2: Newark; Supplier Part Number 2: 19M5873; Supplier 3: Mouser; Supplier Part Number 3: 727-CY22381FXI; Max. Operating Temp. (degreesC): 85; Min. Operating Temp. (degreesC): -40; Packing: Tube; RoHS: Pb-Free; Mounting Technology: Surface Mount; Code_JEDEC: MS-012; ComponentLink1Description: Manufacturer URL; ComponentLink1URL: http://www.cypress.com/; ComponentLink2Description: Datasheet; ComponentLink2URL: http://www.cypress.com/?docID=29347; ComponentLink3Description: Package Specification; ComponentLink3URL: http://www.cypress.com/?docID=39153
footprint CYP-SX8_N (SOIC, 8-Leads, Body 4.89x3.90mm, Pitch 1.27mm, IPC Medium Density)
footprint CYP-SX8_L (SOIC, 8-Leads, Body 4.89x3.90mm, Pitch 1.27mm, IPC High Density)
footprint CYP-SX8_M (SOIC, 8-Leads, Body 4.89x3.90mm, Pitch 1.27mm, IPC Low Density)
pins: 1 CLKC (hiz) "Configurable clock output C", 2 GND (power) "Ground", 3 XTALIN (in) "Reference crystal input or external reference clock input", 4 XTALOUT "Reference crystal feedback (float if XTALIN is driven by external reference clock)", 5 CLKB (hiz) "Configurable clock output B", 6 CLKA (hiz) "Configurable clock output A", 7 VDD (power) "Power supply", 8 FS/~{SUSPEND}/OE/~{SHUTDOWN} (in) "General Purpose Input. Can be Frequency Control, Suspend mode control, Output Enable, or full-chip shutdown."

## CY22381FXIT
designator U?
Three-PLL General Purpose FLASH Programmable Clock Generator, 3.3 V, 3 Outputs, 166 MHz Maximum, -40 to 85 degC, 8-Pin SOIC (SX8), Tape and Reel; Manufacturer: Cypress; PartNumber: CY22381FXIT; Input Frequency Max. (MHz): 150; Input Frequency Min. (MHz): 1; Max. Operating Voltage (V): 3.465; Min. Operating Voltage (V): 3.135; No. of Outputs: 3; Output Frequency Max. (MHz): 166; DatasheetVersion: Rev. *I; PackageVersion: Rev. *E, 06/2011; PackageReference: SX8; PackageDescription: 8-pin Lead SOIC-S08, Body 4.89 x 3.90 mm,Pitch 1.27 mm; Supplier 1: Digi-Key; Supplier Part Number 1: CY22381FXIT-ND; Supplier 2: Mouser; Supplier Part Number 2: 727-CY22381FXIT; Max. Operating Temp. (degreesC): 85; Min. Operating Temp. (degreesC): -40; Packing: Tape and Reel; RoHS: Pb-Free; Mounting Technology: Surface Mount; Code_JEDEC: MS-012; ComponentLink1Description: Manufacturer URL; ComponentLink1URL: http://www.cypress.com/; ComponentLink2Description: Datasheet; ComponentLink2URL: http://www.cypress.com/?docID=29347; ComponentLink3Description: Package Specification; ComponentLink3URL: http://www.cypress.com/?docID=39153
footprint CYP-SX8_N (SOIC, 8-Leads, Body 4.89x3.90mm, Pitch 1.27mm, IPC Medium Density)
footprint CYP-SX8_L (SOIC, 8-Leads, Body 4.89x3.90mm, Pitch 1.27mm, IPC High Density)
footprint CYP-SX8_M (SOIC, 8-Leads, Body 4.89x3.90mm, Pitch 1.27mm, IPC Low Density)
pins: 1 CLKC (hiz) "Configurable clock output C", 2 GND (power) "Ground", 3 XTALIN (in) "Reference crystal input or external reference clock input", 4 XTALOUT "Reference crystal feedback (float if XTALIN is driven by external reference clock)", 5 CLKB (hiz) "Configurable clock output B", 6 CLKA (hiz) "Configurable clock output A", 7 VDD (power) "Power supply", 8 FS/~{SUSPEND}/OE/~{SHUTDOWN} (in) "General Purpose Input. Can be Frequency Control, Suspend mode control, Output Enable, or full-chip shutdown."

## CY22388FZXC
designator U?
Factory Programmable Quad PLL Clock Generator with VCXO, 3.3 V, 5 Outputs, 5 to 166 MHz, 0 to 70 degC, 16-Pin TSSOP (ZX16), Tube; Manufacturer: Cypress; PartNumber: CY22388FZXC; Input Frequency Max. (MHz): 100; Input Frequency Min. (MHz): 1; Max. Operating Voltage (V): 3.6; Min. Operating Voltage (V): 3; No. of Outputs: 5; Output Frequency Max. (MHz): 166; DatasheetVersion: Rev. *G; PackageVersion: Rev. *D, 09/2011; PackageReference: ZX16; PackageDescription: 16-Pin Thin Shrink Small Outline Package, Body 5 x 4.4 mm, Pitch 0.65 mm; Supplier 1: Mouser; Supplier Part Number 1: 727-CY22388FZXC; Max. Operating Temp. (degreesC): 70; Min. Operating Temp. (degreesC): 0; Output Frequency Min. (MHz): 5; Packing: Tube; RoHS: Pb-Free; Mounting Technology: Surface Mount; Code_JEDEC: MO-153; ComponentLink1Description: Manufacturer URL; ComponentLink1URL: http://www.cypress.com/; ComponentLink2Description: Datasheet; ComponentLink2URL: http://www.cypress.com/?docID=46154; ComponentLink3Description: Package Specification; ComponentLink3URL: http://www.cypress.com/?docID=39143
footprint CYP-ZX16_N (SOP, 16-Leads, Body 5.1x4.5mm, Pitch 0.65mm, IPC Medium Density)
footprint CYP-ZX16_L (SOP, 16-Leads, Body 5.1x4.5mm, Pitch 0.65mm, IPC High Density)
footprint CYP-ZX16_M (SOP, 16-Leads, Body 5.1x4.5mm, Pitch 0.65mm, IPC Low Density)
pins: 1 XIN (in) "Crystal input or reference clock input", 2 FS0 (in) "Frequency select 0", 3 FS1 (in) "Frequency select 1", 4 VIN (in) "Analog control input for VCXO", 5 VDD (power) "Voltage supply", 6 VSS (power) "Ground", 7 CLKA (out) "Clock output", 8 CLKB (out) "Clock output", 9 CLKC (out) "Clock output", 10 CLKD (out) "Clock output", 11 CLKE (out) "Clock output", 12 VSS (power) "Ground", 13 VDD (power) "Voltage supply", 14 FS2 (in) "Frequency select 2", 15 VDD (power) "Voltage supply", 16 XOUT "Crystal output (No connect if external clock is used)"

## CY22388FZXCT
designator U?
Factory Programmable Quad PLL Clock Generator with VCXO, 3.3 V, 5 Outputs, 5 to 166 MHz, 0 to 70 degC, 16-Pin TSSOP (ZX16), Tape and Reel; Manufacturer: Cypress; PartNumber: CY22388FZXCT; Input Frequency Max. (MHz): 100; Input Frequency Min. (MHz): 1; Max. Operating Voltage (V): 3.6; Min. Operating Voltage (V): 3; No. of Outputs: 5; Output Frequency Max. (MHz): 166; DatasheetVersion: Rev. *G; PackageVersion: Rev. *D, 09/2011; PackageReference: ZX16; PackageDescription: 16-Pin Thin Shrink Small Outline Package, Body 5 x 4.4 mm, Pitch 0.65 mm; Supplier 1: Mouser; Supplier Part Number 1: 727-CY22388FZXCT; Max. Operating Temp. (degreesC): 70; Min. Operating Temp. (degreesC): 0; Output Frequency Min. (MHz): 5; Packing: Tape and Reel; RoHS: Pb-Free; Mounting Technology: Surface Mount; Code_JEDEC: MO-153; ComponentLink1Description: Manufacturer URL; ComponentLink1URL: http://www.cypress.com/; ComponentLink2Description: Datasheet; ComponentLink2URL: http://www.cypress.com/?docID=46154; ComponentLink3Description: Package Specification; ComponentLink3URL: http://www.cypress.com/?docID=39143
footprint CYP-ZX16_N (SOP, 16-Leads, Body 5.1x4.5mm, Pitch 0.65mm, IPC Medium Density)
footprint CYP-ZX16_L (SOP, 16-Leads, Body 5.1x4.5mm, Pitch 0.65mm, IPC High Density)
footprint CYP-ZX16_M (SOP, 16-Leads, Body 5.1x4.5mm, Pitch 0.65mm, IPC Low Density)
pins: 1 XIN (in) "Crystal input or reference clock input", 2 FS0 (in) "Frequency select 0", 3 FS1 (in) "Frequency select 1", 4 VIN (in) "Analog control input for VCXO", 5 VDD (power) "Voltage supply", 6 VSS (power) "Ground", 7 CLKA (out) "Clock output", 8 CLKB (out) "Clock output", 9 CLKC (out) "Clock output", 10 CLKD (out) "Clock output", 11 CLKE (out) "Clock output", 12 VSS (power) "Ground", 13 VDD (power) "Voltage supply", 14 FS2 (in) "Frequency select 2", 15 VDD (power) "Voltage supply", 16 XOUT "Crystal output (No connect if external clock is used)"